# Altium schematic symbol library ROBOCAM_1.SCHLIB: 230 symbols (part 3 of 5)
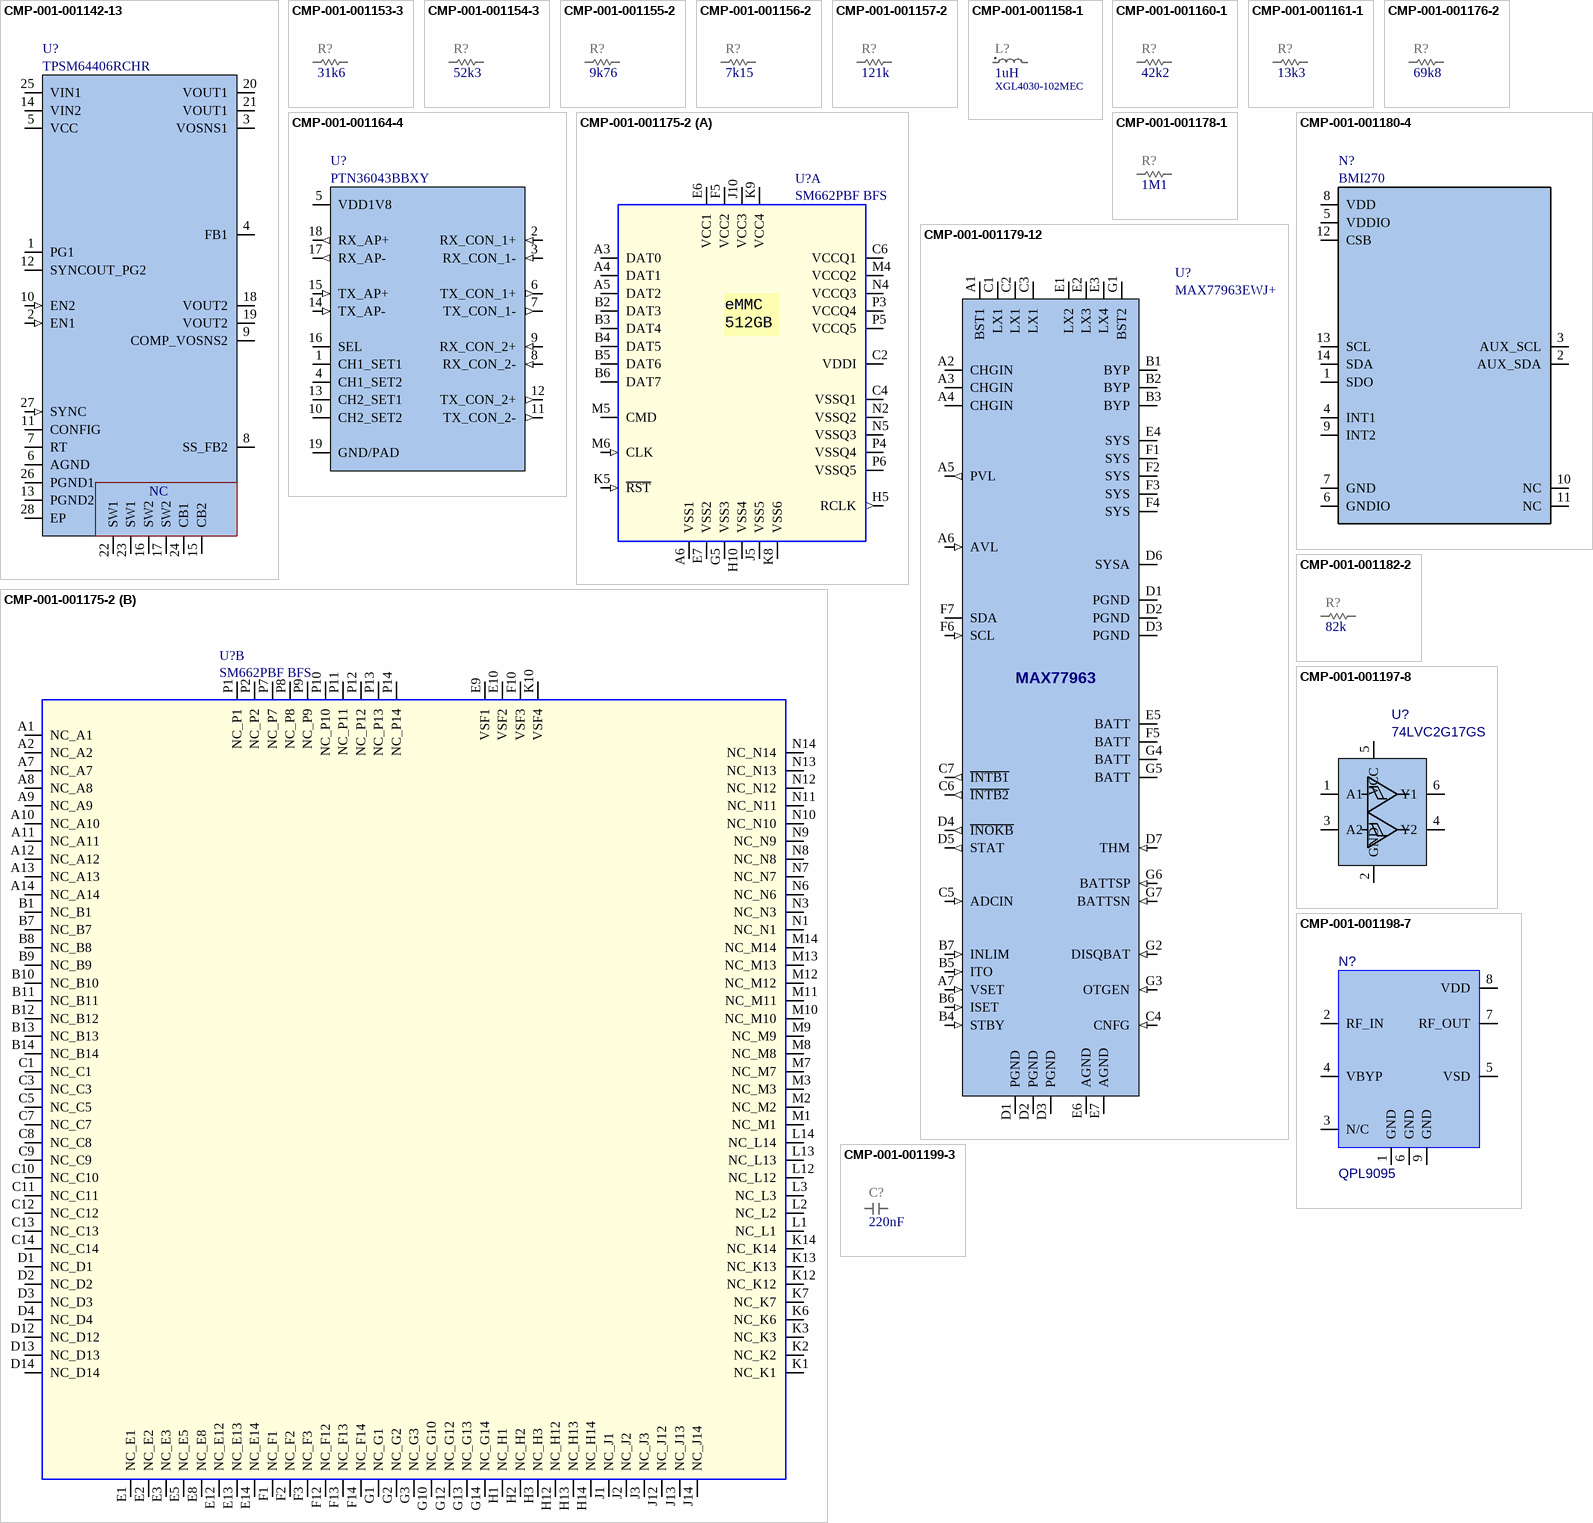
[diagram p13: symbols CMP-001-001142-13 to CMP-001-001199-3]

## CMP-001-001175-2
designator U?, comment SM662PBF BFS
MEM NAND FLASH 512GB eMMC 5.1 HS400 2.7-3.6V, 1.8V VCCQ, TFBGA153 Ferri-eMMC Automotive; Manufacturer: Silicon Motion, Inc.; Manufacturer: Silicon Motion; Manufacturer Part Number: SM662PBFBFSS; Sort order: 511; System: IC; ComponentLink1Description: 1_Datasheet; ComponentLink2Description: 2_Product page; ComponentLink2URL: https://www.siliconmotion.com/products/Ferri-eMMC/detail; ComponentLink3Description: 3_Product brief; ComponentLink3URL: https://www.siliconmotion.com/download/DWo5/a/Ferri-eMMC_PB_EN.pdf; ComponentLink4Description: 4_X-information; Creation Date: 20250508; Dimensions WxLxH: 11.5 x 13 x 1.2 mm; Operating temperature range: -40 .... +105 °C; Package: TFBGA-153; Part Number: SM662PBF BFS; Component Type: Memory
footprint GA153C50P14X14_1150X1300X120
part A pins: A3 DAT0 (io), A4 DAT1 (io), A5 DAT2 (io), A6 VSS1 (power), B2 DAT3 (io), B3 DAT4 (io), B4 DAT5 (io), B5 DAT6 (io), B6 DAT7 (io), C2 VDDI (power), C4 VSSQ1 (power), C6 VCCQ1 (power), E6 VCC1 (power), E7 VSS2 (power), F5 VCC2 (power), G5 VSS3 (power), H5 RCLK (out), H10 VSS4 (power), J5 VSS5 (power), J10 VCC3 (power), K5 ~{RST} (in), K8 VSS6 (power), K9 VCC4 (power), M4 VCCQ2 (power), M5 CMD (io), M6 CLK (in), N2 VSSQ2 (power), N4 VCCQ3 (power), N5 VSSQ3 (power), P3 VCCQ4 (power), P4 VSSQ4 (power), P5 VCCQ5 (power), P6 VSSQ5 (power)
part B pins: A1 NC_A1, A2 NC_A2, A7 NC_A7, A8 NC_A8, A9 NC_A9, A10 NC_A10, A11 NC_A11, A12 NC_A12, A13 NC_A13, A14 NC_A14, B1 NC_B1, B7 NC_B7, B8 NC_B8, B9 NC_B9, B10 NC_B10, B11 NC_B11, B12 NC_B12, B13 NC_B13, B14 NC_B14, C1 NC_C1, C3 NC_C3, C5 NC_C5, C7 NC_C7, C8 NC_C8, C9 NC_C9, C10 NC_C10, C11 NC_C11, C12 NC_C12, C13 NC_C13, C14 NC_C14, D1 NC_D1, D2 NC_D2, D3 NC_D3, D4 NC_D4, D12 NC_D12, D13 NC_D13, D14 NC_D14, E1 NC_E1, E2 NC_E2, E3 NC_E3, E5 NC_E5, E8 NC_E8, E9 VSF1, E10 VSF2, E12 NC_E12, E13 NC_E13, E14 NC_E14, F1 NC_F1, F2 NC_F2, F3 NC_F3, F10 VSF3, F12 NC_F12, F13 NC_F13, F14 NC_F14, G1 NC_G1, G2 NC_G2, G3 NC_G3, G10 NC_G10, G12 NC_G12, G13 NC_G13, G14 NC_G14, H1 NC_H1, H2 NC_H2, H3 NC_H3, H12 NC_H12, H13 NC_H13, H14 NC_H14, J1 NC_J1, J2 NC_J2, J3 NC_J3, J12 NC_J12, J13 NC_J13, J14 NC_J14, K1 NC_K1, K2 NC_K2, K3 NC_K3, K6 NC_K6, K7 NC_K7, K10 VSF4, K12 NC_K12, K13 NC_K13, K14 NC_K14, L1 NC_L1, L2 NC_L2, L3 NC_L3, L12 NC_L12, L13 NC_L13, L14 NC_L14, M1 NC_M1, M2 NC_M2, M3 NC_M3, M7 NC_M7, M8 NC_M8, M9 NC_M9, M10 NC_M10, M11 NC_M11, M12 NC_M12, M13 NC_M13, M14 NC_M14, N1 NC_N1, N3 NC_N3, N6 NC_N6, N7 NC_N7, N8 NC_N8, N9 NC_N9, N10 NC_N10, N11 NC_N11, N12 NC_N12, N13 NC_N13, N14 NC_N14, P1 NC_P1, P2 NC_P2, P7 NC_P7, P8 NC_P8, P9 NC_P9, P10 NC_P10, P11 NC_P11, P12 NC_P12, P13 NC_P13, P14 NC_P14
part A text: eMMC / 512GB

## CMP-001-001176-2
designator R?, comment value 69k8  (hidden comment: RES_0201_69k8)
RES; Part Number: RC0201FR-0769K8L; Manufacturer: YAGEO; Sort order: 322; HasBeenBuilt: TBD; Tolerance: 1%; Power Rating: 1/20W; System: RLC; ComponentLink1Description: 1_Datasheet; ClassName: SMALL; ComponentLink4Description: 4_X-information; ComponentLink3Description: 3_X-information; ComponentLink2Description: 2_Product page; Package: 0201; Creation date: 20250512; Component Type: Resistor
footprint RES_0201_UN1Q (Chip Resistor, 0.6x0.3mm)
pins: 1, 2

## CMP-001-001178-1
designator R?, comment value 1M1  (hidden comment: RES_0201_1M1)
RES; Part Number: RC0201FR-071M1L; Manufacturer: YAGEO; Tolerance: 1%; Power Rating: 1/20W; Sort order: 322; HasBeenBuilt: TBD; System: RLC; Package: 0201; ComponentLink1Description: 1_Datasheet; ComponentLink2Description: 2_Product page; ComponentLink3Description: 3_X-information; ComponentLink4Description: 4_X-information; Creation date: 20250509; ClassName: SMALL; Component Type: Resistor
footprint RES_0201_UN1Q (Chip Resistor, 0.6x0.3mm)
pins: 1, 2

## CMP-001-001179-12
designator U?, comment Part Number: MAX77963EWJ+  (hidden comment: MAX77963)
23VIN, 3.2 2S/3S -cell Li-Ion Battery Charger with PD.; Manufacturer: Analog Devices; Manufacturer Part Number: MAX77986AEFD+; Sort order: 501; System: IC; ComponentLink1Description: 1_Datasheet; ComponentLink1URL: https://www.analog.com/media/en/technical-documentation/data-sheets/max77963.pdf; ComponentLink2Description: 2_Product page; ComponentLink2URL: https://www.analog.com/en/products/max77963.html#evaluation-kit; ComponentLink3Description: 3_EVA-kit; ComponentLink3URL: https://www.analog.com/en/resources/evaluation-hardware-and-software/evaluation-boards-kits/max77963evkit.html#eb-overview; ComponentLink4Description: 4_X-information; Creation date: 20250509; Dimensions WxLxH: 3.72 x 3.72 x 0.6mm; Operating temperature range: -40 ... +85 °C; Package: 49-WLBGA; Component Type: Power Supply
footprint MAX77963EWJ+ (23VIN, 3.2 2S/3S -cell Li-Ion Battery Charger with PD.)
pins: A1 BST1, A2 CHGIN, A3 CHGIN, A4 CHGIN, A5 PVL (out), A6 AVL (in), A7 VSET (in), B1 BYP, B2 BYP, B3 BYP, B4 STBY (in), B5 ITO (in), B6 ISET (in), B7 INLIM (in), C1 LX1, C2 LX1, C3 LX1, C4 CNFG (in), C5 ADCIN (in), C6 ~{INTB2} (out), C7 ~{INTB1} (out), D1 PGND, D1 PGND, D2 PGND, D2 PGND, D3 PGND, D3 PGND, D4 ~{INOKB} (out), D5 STAT (out), D6 SYSA, D7 THM (in), E1 LX2, E2 LX3, E3 LX4, E4 SYS, E5 BATT, E6 AGND, E7 AGND, F1 SYS, F2 SYS, F3 SYS, F4 SYS, F5 BATT, F6 SCL (in), F7 SDA (io), G1 BST2, G2 DISQBAT (in), G3 OTGEN (in), G4 BATT, G5 BATT, G6 BATTSP (in), G7 BATTSN (in)

## CMP-001-001180-4
designator N?, comment BMI270
Low Power 6-Axis IMU Accelerometer, Gyroscope; Manufacturer: Bosch Sensortec; Sort order: 445; System: IC; Part Number: BMI270; ComponentLink1Description: 1_Datasheet; Design Item ID: BMI270; Package: VFLGA-14; ComponentLink2Description: 2_Product page; ClassName: BIG; ComponentLink1URL: https://www.bosch-sensortec.com/media/boschsensortec/downloads/datasheets/bst-bmi270-ds000.pdf; Dimensions WxLxH: 3.0 x 2.5 x 0.87 mm; RoHS: RoHS 3; ComponentLink3Description: 3_X-information; Operating temperature range: -40 .... +85 °C; Creation date: 20250514; ECCN: EAR99; ComponentLink4Description: 4_X-information; Component Type: Sensor
footprint BMI270_VFLGA-14 (Low Power 6-Axis IMU Accelerometer, Gyroscope)
pins: 1 SDO, 2 AUX_SDA, 3 AUX_SCL, 4 INT1, 5 VDDIO, 6 GNDIO, 7 GND, 8 VDD, 9 INT2, 10 NC, 11 NC, 12 CSB, 13 SCL, 14 SDA

## CMP-001-001182-2
designator R?, comment value 82k  (hidden comment: RES_0201_82k)
RES; Part Number: ERJ1GNF8202C; Manufacturer: Panasonic Electronic Components; Tolerance: 1%; Power Rating: 1/20W; Sort order: 322; Alternative component: Allowed; System: RLC; Package: 0201; ComponentLink1Description: 1_Datasheet; ComponentLink2Description: 2_Product page; ComponentLink3Description: 3_X-information; ComponentLink4Description: 4_X-information; Creation date: 20250520; ClassName: SMALL; Component Type: Resistor
footprint RES_0201_UN1Q (Chip Resistor, 0.6x0.3mm)
pins: 1, 2

## CMP-001-001197-8
designator U?, comment 74LVC2G17GS
Non-inverting, Schmitt-Trigger, CMOS.; Manufacturer: Nexperia; Manufacturer Part Number: 74LVC2G17GS,132; Sort order: 446; System: IC; ComponentLink1Description: 1_Datasheet; ComponentLink1URL: https://assets.nexperia.com/documents/data-sheet/74LVC2G17.pdf; ComponentLink2Description: 2_Product page; ComponentLink2URL: https://www.nexperia.com/search?q=74LVC2G&searchCategory=product; ComponentLink3Description: 3_X-information; ComponentLink4Description: 4_X-information; Creation date: 06032024; Dimensions WxLxH: 1.0 mm x 1.0 mm x 0.35mm; Operating temperature range: -40C ... +125C; Package: XSON6; Part Number: 74LVC2G17GS; Component Type: Logic
footprint XSON6_SOT1202_Nexperia
pins: 1 A1, 2 GND, 3 A2, 4 Y2, 5 VCC (power), 6 Y1

## CMP-001-001198-7
designator N?, comment QPL9095
Ultra Low-Noise, Bypass LNA; Manufacturer: Qorvo; Manufacturer Part Number: QPL9095SR; Sort order: 721; System: RF; ComponentLink4Description: 4_X-information; ComponentLink2URL: https://www.qorvo.com/products/p/QPL9095; ClassName: BIG; ComponentLink1Description: 1_Datasheet; Operating temperature range: -40°C ... 105°C; Package: DFN50; ComponentLink1URL: https://www.qorvo.com/products/d/da006183; Creation Date: 20240607; ComponentLink3Description: 3_X-information; ComponentLink3URL: https://www.qorvo.com/products/d/da006076; ComponentLink2Description: 2_Product page; Dimensions WxLxH: 2 x 2 x 0.95; Part Number: QPL9095; Component Type: RF IC
footprint DFN8_P50_200x200x95_QORVO (DFN8 2x2mm Pitch 0.5 mm)
pins: 1 GND, 2 RF_IN, 3 N/C, 4 VBYP, 5 VSD, 6 GND, 7 RF_OUT, 8 VDD, 9 GND

## CMP-001-001199-3
designator C?, comment value 220nF  (hidden comment: CAP_0402_220nF_X7R_16V)
CAP; Part Number: GRM155R71C224KA12D; Manufacturer: Murata; Sort order: 304; Temperature characteristics: X7R; Voltage: 16V; Tolerance: +/-10%; HasBeenBuilt: TBD; System: RLC; Alternative component: Allowed; Package: 0402; ComponentLink2Description: 2_Product page; Source: RLC_UN1Q.SchLib; ComponentLink1Description: 1_Datasheet; ComponentLink3Description: 3_X-information; ComponentLink4Description: 4_X-information; Creation date: 20240706; Manufacturer Part Number: GRM155R71C224KA12D; Component Type: Capacitor
footprint CAP_0402_UN1Q (Chip Capacitor 0402)
footprint FP-GRM155-0_05-MFG
footprint FP-GRM155-0_05-IPC_A
footprint FP-GRM155-0_05-IPC_C
footprint FP-GRM155-0_05-IPC_B
pins: 1, 2

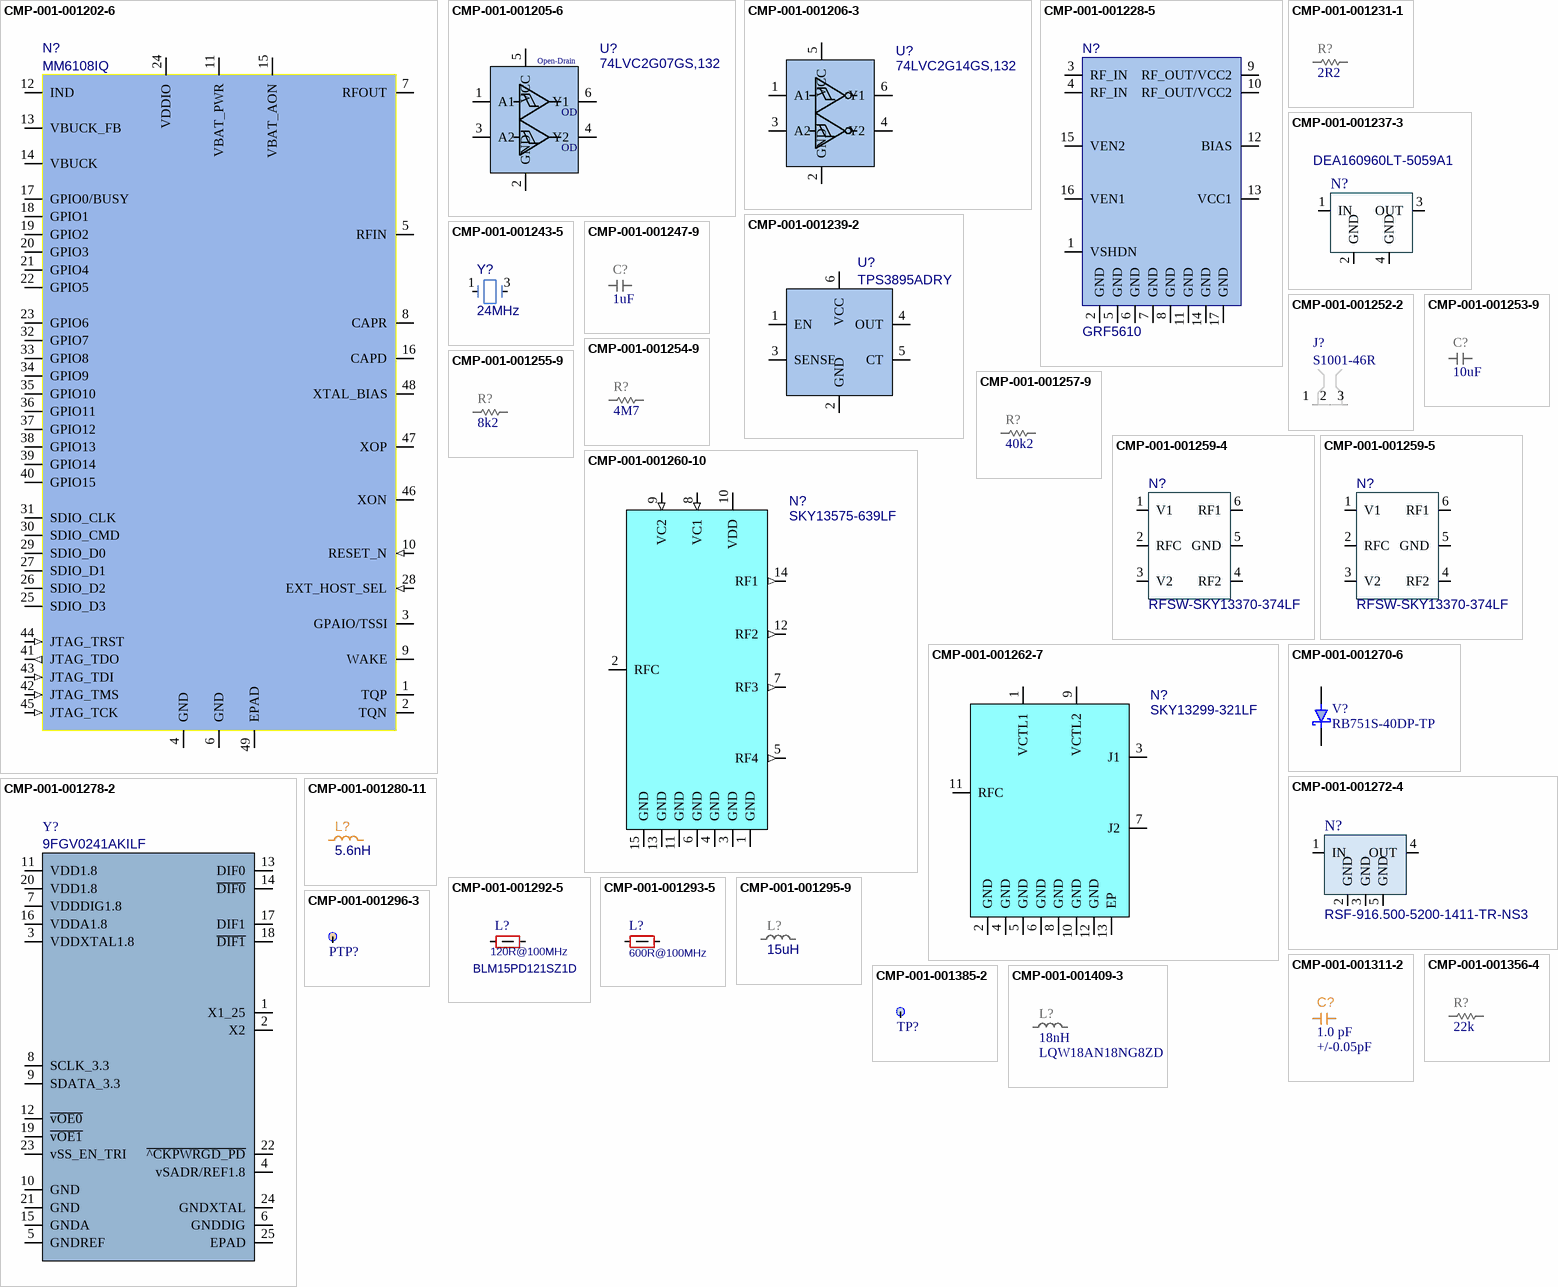
[diagram p7: symbols CMP-001-001202-6 to CMP-001-001409-3]

## CMP-001-001202-6
designator N?, comment Part Number: MM6108IQ  (hidden comment: MM6108)
IEEE 802.11ah Sub-1 GHz HaLow SoC; Manufacturer: Morse Micro; Sort order: 721; System: RF; ComponentLink1URL: https://www.morsemicro.com/download/ds-mm6108-advanced-datasheet-ds102/; ComponentLink3Description: 3_X-information; Operating temperature range: -40 ... +85C; Dimensions WxLxH: 6.1 x 6.1 x 0.9 mm; Package: QFN48; ComponentLink4URL: https://www.morsemicro.com/wp-content/uploads/2023/02/Morse-Micro_MM6108_Product-Brief_v03-5.pdf; ClassName: BIG; Creation Date: 20240607; ComponentLink2Description: 2_Product page; ComponentLink4Description: 4_X-information; ComponentLink1Description: 1_Datasheet; ComponentLink3URL: https://www.morsemicro.com/download/mm6108-mf08651-us-bailey-v13_2-active/; Component Type: RF IC
footprint MM6108-Footprint (QFN48, 6 x 6, Pitch 0.4 mm)
pins: 1 TQP "ADC Test Data Out to FPGA (500MHz)", 2 TQN "ADC Test Data Out to FPGA (500MHz)", 3 GPAIO/TSSI "ADC Test Data Out to FPGA (500MHz)", 4 GND (power) "ADC Test Data Out to FPGA (500MHz)", 5 RFIN, 6 GND (power), 7 RFOUT, 8 CAPR (power), 9 WAKE, 10 RESET_N (in), 11 VBAT_PWR (power), 12 IND, 13 VBUCK_FB (power), 14 VBUCK (power), 15 VBAT_AON (power), 16 CAPD (power), 17 GPIO0/BUSY (io), 18 GPIO1 (io), 19 GPIO2 (io), 20 GPIO3 (io), 21 GPIO4 (io), 22 GPIO5 (io), 23 GPIO6 (io), 24 VDDIO (power), 25 SDIO_D3 (io), 26 SDIO_D2 (io), 27 SDIO_D1 (io), 28 EXT_HOST_SEL (in), 29 SDIO_D0 (io), 30 SDIO_CMD (io), 31 SDIO_CLK (io), 32 GPIO7 (io), 33 GPIO8 (io), 34 GPIO9 (io), 35 GPIO10 (io), 36 GPIO11 (io), 37 GPIO12 (io), 38 GPIO13 (io), 39 GPIO14 (io), 40 GPIO15 (io), 41 JTAG_TDO (out), 42 JTAG_TMS (in), 43 JTAG_TDI (in), 44 JTAG_TRST (in), 45 JTAG_TCK (in), 46 XON, 47 XOP, 48 XTAL_BIAS, 49 EPAD (power)

## CMP-001-001205-6
designator U?, comment Part Number: 74LVC2G07GS,132  (hidden comment: 74LVC2G07GS)
Dual buffer with open-drain outputs , Schmitt-Trigger, CMOS.; Manufacturer: Nexperia; Manufacturer: NXP Semiconductors; Sort order: 446; System: IC; ComponentLink1Description: 1_Datasheet; ComponentLink1URL: https://assets.nexperia.com/documents/data-sheet/74LVC2G07.pdf; ComponentLink2Description: 2_Product page; ComponentLink2URL: https://www.nexperia.com/search?q=74LVC2G&searchCategory=product; ComponentLink3Description: 3_X-information; ComponentLink4Description: 4_X-information; Creation date: 20240318; Dimensions WxLxH: 1.0 mm x 1.0 mm x 0.35mm; Operating temperature range: -40C ... +125C; Package: XSON6; Manufacturer Part Number: 74LVC2G07GS,132; Component Type: Logic
footprint XSON6_SOT1202_Nexperia
pins: 1 A1, 2 GND, 3 A2, 4 Y2, 5 VCC (power), 6 Y1
text: Open-Drain; OD

## CMP-001-001206-3
designator U?, comment Part Number: 74LVC2G14GS,132  (hidden comment: 74LVC2G14GS)
Inverter, Schmitt-Trigger, CMOS.; Manufacturer: Nexperia; Sort order: 446; System: IC; ComponentLink1Description: 1_Datasheet; ComponentLink1URL: https://assets.nexperia.com/documents/data-sheet/74LVC2G14.pdf; ComponentLink2Description: 2_Product page; ComponentLink2URL: https://www.nexperia.com/search?q=74LVC2G&searchCategory=product; ComponentLink3Description: 3_X-information; ComponentLink4Description: 4_X-information; Creation date: 20240306; Dimensions WxLxH: 1.0 x 1.0 x 0.35 mm; Operating temperature range: -40C ... +125C; Package: XSON6; Manufacturer Part Number: 74LVC2G14GS,132; Component Type: Logic
footprint XSON6_SOT1202_Nexperia
pins: 1 A1, 2 GND, 3 A2, 4 Y2, 5 VCC (power), 6 Y1

## CMP-001-001228-5
designator N?, comment GRF5610
POWER AMPLIFIER 865 to 928 MHz; Manufacturer: Guerrilla RF; Manufacturer Part Number: GRF5610-EVB; Sort order: 731; System: RF; ComponentLink4Description: 4_X-information; Creation Date: 20240612; ClassName: BIG; Dimensions WxLxH: 3 x 3 x 0.9; ComponentLink1URL: https://www.guerrilla-rf.com/products/DataSheet?sku=5610&file_name=GRF5610DS.pdf; Package: QFN16; ComponentLink2Description: 2_Product page; Part Number: GRF5610; ComponentLink1Description: 1_Datasheet; Operating temperature range: -40 ... +85C; ComponentLink2URL: https://www.guerrilla-rf.com/products/detail/sku/GRF5610; ComponentLink3Description: 3_X-information; Manufacturer Part Number: GRF5610; Component Type: RF IC
footprint QFN16_300x300_Guerrilla (QFN16 Guerrilla RF)
pins: 1 VSHDN "Digital Shutdown Pin", 2 GND, 3 RF_IN "RF Input", 4 RF_IN "RF Input", 5 GND, 6 GND, 7 GND, 8 GND, 9 RF_OUT/VCC2 "PA Output/Bias Voltage", 10 RF_OUT/VCC2 "PA Output/Bias Voltage", 11 GND, 12 BIAS "Bias Circuit Supply", 13 VCC1 "Bias Voltage", 14 GND, 15 VEN2 "Enable2 Voltage Input", 16 VEN1 "Enable1 Voltage Input", 17 GND

## CMP-001-001231-1
designator R?, comment value 2R2  (hidden comment: RES_0805_2R2)
RES; Manufacturer: Panasonic; Part Number: ERJ-6GEYJ2R2V; Tolerance: 5%; Power Rating: 1/8W; Sort order: 328; System: RLC; ComponentLink1Description: 1_Datasheet; Creation date: 20250526; ComponentLink4Description: 4_X-information; ComponentLink3Description: 3_X-information; ComponentLink2Description: 2_Product page; Package: 0805; Manufacturer Part Number: ERJ-6GEYJ2R2V; Component Type: Resistor
footprint RES_0805_UN1Q (Resistor 0805)
pins: 1, 2

## CMP-001-001237-3
designator N?, comment Part Number: DEA160960LT-5059A1  (hidden comment: LPF-698-960MHz_TDK_DEA160960LT-5059A1)
LPF 698-960MHz; Manufacturer: TDK; System: RF; Sort order: 701; ComponentLink3Description: 3_X-information; Dimensions WxLxH: 0.8mm x 1.6mm x  0.6mm; ComponentLink2Description: 2_Product page; Operating temperature range: -40 ... +90C; ComponentLink1URL: https://product.tdk.com/en/search/rf/rf/filter/info?part_no=DEA160960LT-5059A1; Creation date: 20240612; ComponentLink1Description: 1_Datasheet; ComponentLink4Description: 4_X-information; Package: 0603; ComponentLink2URL: https://product.tdk.com/system/files/dam/doc/product/rf/rf/filter/catalog/rf_lpf_dea160960lt-5059a1_en.pdf; Component Type: RF Discrete
footprint TDK_0603_DEA16XXX (TDK 0603 DEA16XXX 3 or 4 pin filters)
pins: 1 IN "50 ohm terminal", 2 GND, 3 OUT "50 ohm terminal", 4 GND

## CMP-001-001239-2
designator U?, comment Part Number: TPS3895ADRY  (hidden comment: TPS3895A)
Adj. Voltage Monitor (>500mV), Push-Pull, Adj. delay; Manufacturer: Texas Instruments; Manufacturer Part Number: TPS3895ADRYT; Manufacturer Part Number: TPS3895ADRYR; HasBeenBuilt: Cmod2_01; Sort order: 501; System: IC; ComponentLink1Description: 1_Datasheet; ComponentLink1URL: https://www.ti.com/lit/ds/symlink/tps3895.pdf?ts=1666337566877&ref_url=https%253A%252F%252Fwww.ti.com%252Fproduct%252FTPS3895; ComponentLink2Description: 2_Product page; ComponentLink2URL: https://www.ti.com/product/TPS3895; ComponentLink3Description: 3_X-information; ComponentLink4Description: 4_X-information; Creation date: 20221021; Dimensions WxLxH: 1.05 x 1.5 x 0.6 mm; Package: USON6; Component Type: Power Supply
footprint SON6_TPS3895ADRY_TI (6-UFDFN)
pins: 1 EN, 2 GND, 3 SENSE, 4 OUT, 5 CT, 6 VCC

## CMP-001-001243-5
designator Y?, comment value 24MHz  (hidden comment: XTAL_24M_10ppm_9pF_+105C)
Crystal 24 MHz ±10ppm 9pF 40Ohms 4-SMD; Part Number: TSX-3225 24.0000MF20G-AC3; Manufacturer: EPSON; Tolerance: +/-10ppm; Sort order: 455; System: Discrete; Operating temperature range: -40 ... +105C; Dimensions WxLxH: 3.2 x 2.5 x 0.6mm; ComponentLink1Description: 1_Datasheet; ComponentLink1URL: https://support.epson.biz/td/api/doc_check.php?dl=brief_TSX-3225&lang=en; ComponentLink2Description: 2_Product page; ComponentLink3Description: 3_X-information; ComponentLink4Description: 4_X-information; Creation date: 20240430; Manufacturer: Epson; Manufacturer Part Number: TSX-3225 24.0000MF20G-AC3; Component Type: Crystal & Oscillator
footprint XTAL_3225_EPSON (Epson TSX-3225 3.2mm x 2.5mm)
pins: 1, 2 GND hidden to GND, 3, 4 GND hidden to GND

## CMP-001-001247-9
designator C?, comment value 1uF  (hidden comment: CAP_0402_1uF_10V_X7R)
CAP; Part Number: GRM155Z71A105KE01J; Manufacturer: Murata; Temperature characteristics: X7R; Voltage: 10V; Tolerance: +/-10%; Sort order: 304; Alternative component: Allowed; System: RLC; Package: 0402; ComponentLink1Description: 1_Datasheet; ComponentLink2Description: 2_Product page; ComponentLink3Description: 3_X-information; ComponentLink4Description: 4_X-information; Creation date: 20240404; Manufacturer Part Number: GRM155Z71A105KE01J; Component Type: Capacitor
footprint CAP_0402_UN1Q (Chip Capacitor 0402)
pins: 1, 2

## CMP-001-001252-2
designator J?, comment S1001-46R
EMC Shielding Clip; Manufacturer: Harwin; Sort order: 101; System: EMECH; Part Number: S1001-46R; Package: Clip; ComponentLink1Description: 1_Datasheet; ComponentLink1URL: https://cdn.harwin.com/pdfs/S1001-46R.pdf; Dimensions WxLxH: 0.75x4.5x0.9; ComponentLink2Description: 2_Product page; ComponentLink2URL: https://www.harwin.com/products/S1001-46R/; ComponentLink3Description: 3_X-information; ComponentLink4Description: 4_X-information; Creation Date: 20240502; Design Item ID: EMC_Shield_Clip_S1001-46R; Manufacturer Part Number: S1001-46R; Component Type: Shield
footprint Shield_Clip_S1001-46R_Harwin (EMC Shielding Clip)
pins: 1, 2, 3

## CMP-001-001253-9
designator C?, comment value 10uF  (hidden comment: CAP_0603_10u_10V_X7R)
CAP; Part Number: GRM188Z71A106KA73D; Manufacturer: Murata; Voltage: 10V; Tolerance: +/-10%; Temperature characteristics: X7R; Sort order: 306; Alternative component: Allowed; System: RLC; Package: 0603; ComponentLink1Description: 1_Datasheet; ComponentLink2Description: 2_Product page; ComponentLink3Description: 3_X-information; ComponentLink4Description: 4_X-information; Creation date: 20240404; Manufacturer Part Number: GRM188Z71A106KA73D; Component Type: Capacitor
footprint CAP_0603_UN1Q (Chip Capacitor 0603)
pins: 1, 2

## CMP-001-001254-9
designator R?, comment value 4M7  (hidden comment: RES_0201_4M7)
RES; Part Number: MCRE000254; Manufacturer: MULTICOMP PRO; Tolerance: 1%; Power Rating: 1/20W; Sort order: 322; Alternative component: Allowed; System: RLC; Package: 0201; ClassName: SMALL; ComponentLink1Description: 1_Datasheet; ComponentLink2Description: 2_Product page; ComponentLink3Description: 3_X-information; ComponentLink4Description: 4_X-information; Creation date: 20240404; Component Type: Resistor
footprint RES_0201_UN1Q (Chip Resistor, 0.6x0.3mm)
pins: 1, 2

## CMP-001-001255-9
designator R?, comment value 8k2  (hidden comment: RES_0201_8k2)
RES; Part Number: ERJ1GNF8201C; Manufacturer: Panasonic Electronic Components; Tolerance: 1%; Power Rating: 1/20W; Sort order: 322; Alternative component: Allowed; System: RLC; Package: 0201; ClassName: SMALL; ComponentLink1Description: 1_Datasheet; ComponentLink2Description: 2_Product page; ComponentLink3Description: 3_X-information; ComponentLink4Description: 4_X-information; Creation date: 20240404; Component Type: Resistor
footprint RES_0201_UN1Q (Chip Resistor, 0.6x0.3mm)
pins: 1, 2

## CMP-001-001257-9
designator R?, comment value 40k2  (hidden comment: RES_0201_40k2)
RES; Part Number: RC0201FR-0740K2L; Manufacturer: YAGEO; Power Rating: 1/20W; Sort order: 322; Tolerance: 1%; Alternative component: Allowed; System: RLC; Package: 0201; Creation date: 20240404; ComponentLink3Description: 3_X-information; ClassName: SMALL; ComponentLink1Description: 1_Datasheet; ComponentLink2Description: 2_Product page; ComponentLink4Description: 4_X-information; Component Type: Resistor
footprint RES_0201_UN1Q (Chip Resistor, 0.6x0.3mm)
pins: 1, 2

## CMP-001-001259-4
designator N?, comment RFSW-SKY13370-374LF
0.5 to 6.0 GHz SPDT Switch.  50 Ω Terminated; Manufacturer: Skyworks; Manufacturer: Skyworks Solutions; System: RF; Sort order: 711; Part Number: SKY13370-374LF; Operating temperature range: -40C ... +85C; Package: DFN6; ComponentLink2Description: 2_Product page; ComponentLink4Description: 4_X-information; ComponentLink1Description: 1_Datasheet; ComponentLink2URL: https://www.skyworksinc.com/en/Products/switches/SKY13370-374LF; Dimensions WxLxH: 1.5 x 1.5 x 0.5; ComponentLink1URL: https://www.skyworksinc.com/-/media/SkyWorks/Documents/Products/501-600/SKY13370_374LF_201408G.pdf; ComponentLink3Description: 3_X-information; Creation Date: 20200101; ClassName: BIG; Manufacturer Part Number: SKY13370-374LF; Component Type: RF IC
footprint IC_SKY136XX_DFN (Antenna SPDT Switch)
pins: 1 V1 "DC control voltage. A logic high voltage enables an insertion loss path between the RFC and RF1 pins.", 2 RFC "RF common input. Must be DC blocked.", 3 V2 "DC control voltage. A logic high voltage enables an insertion loss path between the RFC and RF2 pins.", 4 RF2 "RF output: 50 Ω terminated when in isolation state. Must be DC blocked.", 5 GND, 6 RF1 "RF output: 50 Ω terminated when in isolation state. Must be DC blocked.", 7 GND_PAD (power) hidden to GND "GND"

## CMP-001-001259-5
designator N?, comment RFSW-SKY13370-374LF
0.5 to 6.0 GHz SPDT Switch.  50 Ω Terminated; Manufacturer: Skyworks; Manufacturer: Skyworks Solutions; System: RF; Sort order: 711; Part Number: SKY13370-374LF; Operating temperature range: -40C ... +85C; Package: DFN6; ComponentLink2Description: 2_Product page; ComponentLink4Description: 4_X-information; ComponentLink1Description: 1_Datasheet; ComponentLink2URL: https://www.skyworksinc.com/en/Products/switches/SKY13370-374LF; Dimensions WxLxH: 1.5 x 1.5 x 0.5; ComponentLink1URL: https://www.skyworksinc.com/-/media/SkyWorks/Documents/Products/501-600/SKY13370_374LF_201408G.pdf; RoHS: RoHS 3; ComponentLink3Description: 3_X-information; ECCN: 5A991G; Creation Date: 20200101; ClassName: BIG; Manufacturer Part Number: SKY13370-374LF; Component Type: RF IC
footprint IC_SKY136XX_DFN (Antenna SPDT Switch)
pins: 1 V1 "DC control voltage. A logic high voltage enables an insertion loss path between the RFC and RF1 pins.", 2 RFC "RF common input. Must be DC blocked.", 3 V2 "DC control voltage. A logic high voltage enables an insertion loss path between the RFC and RF2 pins.", 4 RF2 "RF output: 50 Ω terminated when in isolation state. Must be DC blocked.", 5 GND, 6 RF1 "RF output: 50 Ω terminated when in isolation state. Must be DC blocked.", 7 GND_PAD (power) hidden to GND "GND"

## CMP-001-001260-10
designator N?, comment SKY13575-639LF
Dual-Band Matched SP4T Wi-Fi Switch; Manufacturer: Skyworks; Manufacturer: Skyworks Solutions; Sort order: 711; System: RF; Part Number: SKY13575-639LF; ComponentLink1URL: https://www.skyworksinc.com/-/media/SkyWorks/Documents/Products/2201-2300/SKY13575_639LF_203270D.pdf; ClassName: BIG; ComponentLink4Description: 4_X-information; ComponentLink2URL: https://www.skyworksinc.com/en/Products/switches/SKY13575-639LF; Dimensions WxLxH: 1.6 x 1.6 x 0.5; Operating temperature range: -40C ... +90C; ECCN: 5A991.g; Creation Date: 20240626; ComponentLink2Description: 2_Product page; Package: QFN14; ComponentLink3Description: 3_X-information; ComponentLink1Description: 1_Datasheet; Manufacturer Part Number: SKY13575-639LF; Component Type: RF IC
footprint SKY13575-639LF-Footprint (QFN14 SKYWORKS)
pins: 1 GND (power), 2 RFC, 3 GND (power), 4 GND (power), 5 RF4 (out), 6 GND (power), 7 RF3 (out), 8 VC1 (in), 9 VC2 (in), 10 VDD (power), 11 GND (power), 12 RF2 (out), 13 GND (power), 14 RF1 (out), 15 GND (power)

## CMP-001-001262-7
designator N?, comment SKY13299-321LF
20 MHz-5 GHz, 7 W SPDT Switch; Manufacturer: Skyworks; Manufacturer: Skyworks Solutions; System: RF; Sort order: 711; ComponentLink2URL: https://www.skyworksinc.com/en/Products/switches/SKY13299-321LF; Operating temperature range: -40C ... +85C; ComponentLink1URL: https://www.skyworksinc.com/-/media/SkyWorks/Documents/Products/101-200/SKY13299_321LF_200621J.pdf; ComponentLink4Description: 4_X-information; ComponentLink3Description: 3_X-information; Package: QFN12L; ComponentLink2Description: 2_Product page; ComponentLink1Description: 1_Datasheet; Part Number: SKY13299-321LF; Creation Date: 20260626; Dimensions WxLxH: 3 x 3 x 0.8; ClassName: BIG; Manufacturer Part Number: SKY13299-321LF; Component Type: RF IC
footprint SKY13299-321LF-Footprint (QFN12, 3 x 3 mm Skyworks)
pins: 1 VCTL1, 2 GND, 3 J1, 4 GND, 5 GND, 6 GND, 7 J2, 8 GND, 9 VCTL2, 10 GND, 11 RFC, 12 GND, 13 EP

## CMP-001-001270-6
designator V?, comment RB751S-40DP-TP
Schottky diode 30mA 40V; Manufacturer: Micro Commercial Components MCC; Manufacturer: MCC; Sort order: 421; Value: 1mA@370mV; System: Discrete; Package: 0201; Part Number: RB751S-40DP-TP; Operating temperature range: -55...125C; ComponentLink1Description: 1_Datasheet; ComponentLink1URL: https://www.mccsemi.com/pdf/Products/RB751S-40DP(0201).pdf; Dimensions WxLxH: 0.67x0.37x0.34; ComponentLink2Description: 2_Product page; ComponentLink3Description: 3_X-information; ComponentLink4Description: 4_X-information; Creation date: 20240704; ClassName: SMALL; Manufacturer Part Number: RB751S-40DP-TP; Component Type: Diode
footprint Schottky_0201_MCC (Schottkydiode, 0201, Micro Commercial Components)
pins: 1 CATHODE, 2 ANODE

## CMP-001-001272-4
designator N?, comment RSF-916.500-5200-1411-TR-NS3
916.5 MHz SAW FILTER, IL 2.8; Manufacturer: RALTRON; Manufacturer: Raltron Electronics; System: RF; Sort order: 701; Part Number: RSF-916.500-5200-1411-TR-NS3; ComponentLink2URL: https://www.raltron.com/saw-filters-by-frequency/?3186_device=laptop&3186_paged=4; Dimensions WxLxH: 1.4 x 1.1 x  0.6mm; ComponentLink2Description: 2_Product page; ComponentLink1Description: 1_Datasheet; ComponentLink4Description: 4_X-information; ComponentLink3Description: 3_X-information; Package: 5-SMD; ComponentLink1URL: https://www.raltron.com/webproducts/specs/SAW_FILTER/RSF-916.500-5200-1411-TR-NS3.pdf; Operating temperature range: -40 ... +95C; Creation date: 20240711; Manufacturer Part Number: RSF-916.500-5200-1411-TR-NS3; Component Type: RF Discrete
footprint RSF-916.500-5200-1411-TR-NS3
pins: 1 IN "50 ohm input", 2 GND, 3 GND, 4 OUT "50 ohm output", 5 GND

## CMP-001-001278-2
designator Y?, comment 9FGV0241AKILF
PCIe Clock Generator, 2-output PCIE GEN 1–4 CLOCK GENERATOR; Manufacturer: Renesas Electronics Corporation; Manufacturer: Renesas; Sort order: 455; System: IC; ECCN: EAR99; ComponentLink3Description: 3_X-information; ComponentLink4Description: 4_X-information; Operating temperature range: -40 .... +85 °C; ComponentLink1URL: https://www.renesas.com/us/en/document/dst/9fgv0241-datasheet; Creation date: 20240816; Part Number: 9FGV0241AKILF; Dimensions WxLxH: 4.0x4.0x0.9mm; ComponentLink1Description: 1_Datasheet; Design Item ID: 9FGV0241AKILF; Package: VFQFPN-24; ComponentLink2Description: 2_Product page; ClassName: BIG; Manufacturer Part Number: 9FGV0241AKILF; Component Type: Timing
footprint VFQFPN-24_9FGV0241AKLF (VFQFPN-24)
pins: 1 X1_25, 2 X2, 3 VDDXTAL1.8, 4 vSADR/REF1.8, 5 GNDREF, 6 GNDDIG, 7 VDDDIG1.8, 8 SCLK_3.3, 9 SDATA_3.3, 10 GND, 11 VDD1.8, 12 ~{vOE0}, 13 DIF0, 14 ~{DIF0}, 15 GNDA, 16 VDDA1.8, 17 DIF1, 18 ~{DIF1}, 19 ~{vOE1}, 20 VDD1.8, 21 GND, 22 ~{^CKPWRGD_PD}, 23 vSS_EN_TRI, 24 GNDXTAL, 25 EPAD

## CMP-001-001280-11
designator L?, comment value 5.6nH  (hidden comment: IND_0402_5n6_RF_MATCHING)
IND_RF_MATCHING, WIREWOUND; Manufacturer: Murata; Part Number: LQW15AN5N6B8Z#; Manufacturer Part Number: LQW15AN5N6B8ZD; Tolerance: +/- 5%; HasBeenBuilt: TBD; Sort order: 206; System: RLC; Remark: RF matching, use part number; ComponentLink2Description: 2_Product page; ComponentLink1Description: 1_Datasheet; Operating temperature range: -55 ... +125C; Creation date: 20240318; Source: UUDET_KOMPONENTIT.SchLib; ComponentLink1URL: https://www.mouser.fi/datasheet/2/281/1/JELF243A_9138-1699493.pdf; ComponentLink3Description: 3_X-information; Package: 0402; ClassName: SMALL; ComponentLink4Description: 4_X-information; RoHS: RoHS3; Component Type: Inductor
footprint IND_0402_UN1Q (Chip Resistor, 1.0x0.5mm)
pins: 1, 2

## CMP-001-001292-5
designator L?, comment value 120R@100MHz  Part Number: BLM15PD121SZ1D  (hidden comment: FERRITE_0402_BLM15PD_120R)
FERRITE; Manufacturer: Murata; HasBeenBuilt: TBD; Sort order: 364; Tolerance: 25%; System: Discrete; Current: 1.3A; Source: Discrete_UN1Q.SchLib; Creation date: 20240904; Package: 0402; ComponentLink3Description: 3_X-information; Operating temperature range: -55 ... +125C; ComponentLink2Description: 2_Product page; ComponentLink2URL: https://www.murata.com/en-global/search/productsearch?cate=cgsubChipFerriBead&partno=BLM15PD121&realtime=1; ComponentLink4Description: 4_X-information; ComponentLink1Description: 1_Datasheet; ComponentLink1URL: https://www.mouser.fi/datasheet/2/281/QNFA9118-1915745.pdf; Manufacturer Part Number: BLM15PD121SZ1D; Component Type: Ferrite
footprint IND_0402_UN1Q (Chip Resistor, 1.0x0.5mm)
pins: 1, 2

## CMP-001-001293-5
designator L?, comment value 600R@100MHz  (hidden comment: FERRITE_0402_BLM15PX_600R)
FERRITE; Part Number: BLM15PX601SZ1#; Manufacturer: Murata; Manufacturer Part Number: BLM15PX601SZ1D; System: Discrete; Tolerance: 25%; Sort order: 364; HasBeenBuilt: TBD; Current: 0.9A; ComponentLink1URL: https://www.mouser.fi/datasheet/2/281/QNFA9118-1915745.pdf; Package: 0402; Creation date: 20240904; ComponentLink2Description: 2_Product page; Source: Discrete_UN1Q.SchLib; ComponentLink4Description: 4_X-information; ComponentLink1Description: 1_Datasheet; ComponentLink3Description: 3_X-information; Operating temperature range: -55 ... +125C; Component Type: Ferrite
footprint IND_0402_UN1Q (Chip Resistor, 1.0x0.5mm)
pins: 1, 2

## CMP-001-001295-9
designator L?, comment value 15uH  (hidden comment: IND_1008_15uH_Wurth)
15uH 0.47A 820mohm; Manufacturer: Wurth; Part Number: 74404024150; Manufacturer: Wurth Elektronik; Sort order: 348; System: RLC; HasBeenBuilt: TBD; ComponentLink1Description: 1_Datasheet; ComponentLink3Description: 3_X-information; ComponentLink2Description: 2_Product page; Package: 1008; Dimensions WxLxH: 2.0x2.5x1.2; ComponentLink1URL: https://www.we-online.com/components/products/datasheet/74404024150.pdf; ComponentLink2URL: https://www.digikey.com/en/products/detail/w%C3%BCrth-elektronik/74404024150/4865380; Creation date: 20240904; ComponentLink4Description: 4_X-information; Current: 0.47A; Manufacturer Part Number: 74404024150; Component Type: Inductor
footprint IND_1008_UN1Q_Wurth (Chip Inductor, 1008)
pins: 1, 2

## CMP-001-001296-3
designator PTP?, comment PTP_0.4mm  (value not drawn)  (no BOM)
Production Testpoint 0.4mm. Flying probe. Use 1mm pitch.; Part Number: PTP 0.4mm; ComponentLink4Description: 4_X-information; ComponentLink1Description: 1_Datasheet; Sort order: -; ClassName: SMALL; System: Test Point; HasBeenBuilt: -; Design Item ID: PTP_0.4mm; ComponentLink3Description: 3_X-information; Creation date: 20240909; ComponentLink2Description: 2_Product page; Component Type: Test Point
footprint PTP_0.4mm (ProductionTest Point, Circular, 0.4mm. Flying probe. Use 1mm pitch.)
pins: 1 TP

## CMP-001-001311-2
designator C?, comment value 1.0 pF  Tolerance: +/-0.05pF  (hidden comment: CAP_0201_1p0_GJM_RF_MATCHING)
CAP_RF_MATCHING; Manufacturer: Murata; Part Number: GJM0335C1H1R0WB01; HasBeenBuilt: TBD; Sort order: 202; Remark: RF matching, use part number; Temperature characteristics: C0G; System: RLC; Voltage: 50V; ComponentLink3Description: 3_X-information; ComponentLink1URL: https://www.murata.com/en-global/products/productdetail?partno=GJM0335C1H1R0WB01%23; Creation date: 20240917; Source: RLC_UN1Q.SchLib; ECCN: EAR99; ComponentLink1Description: 1_Datasheet; Package: 0201; ComponentLink2Description: 2_Product page; ComponentLink4Description: 4_X-information; Operating temperature range: -55 ... +125C; ClassName: SMALL; RoHS: RoHS 2011/65/EU amended by 2015/863 Compliant; Component Type: Capacitor
footprint CAP_0201_UN1Q (Chip Capacitor 0201)
pins: 1, 2

## CMP-001-001356-4
designator R?, comment value 22k  (hidden comment: RES_0201_22k)
RES; Part Number: RC0201FR-0712KL; Manufacturer: YAGEO; Manufacturer: Yageo Group; Manufacturer Part Number: RC0201FR-0722KL; Tolerance: 1%; Power Rating: 1/20W; Sort order: 322; Alternative component: Allowed; System: RLC; Package: 0201; ComponentLink1Description: 1_Datasheet; ComponentLink2Description: 2_Product page; ComponentLink3Description: 3_X-information; ComponentLink4Description: 4_X-information; Creation date: 20241101; ClassName: SMALL; Component Type: Resistor
footprint RES_0201_UN1Q (Chip Resistor, 0.6x0.3mm)
pins: 1, 2

## CMP-001-001385-2
designator TP?, comment TP_0.4mm  (value not drawn)  (no BOM)
Testpoint 0.4mm; Part Number: TP 0.4mm; HasBeenBuilt: -; ComponentLink3Description: 3_X-information; System: Test Point; ClassName: SMALL; Design Item ID: TP_0.4mm; Sort order: -; ComponentLink4Description: 4_X-information; ComponentLink2Description: 2_Product page; Creation date: 20241125; ComponentLink1Description: 1_Datasheet; Component Type: Test Point
footprint TP_0.4mm (Test Point 0.4mm)
pins: 1 TP

## CMP-001-001409-3
designator L?, comment value 18nH  Part Number: LQW18AN18NG8ZD  (hidden comment: IND_0603_18nH_LQW)
IND High Q Wirewound, 1.4A; Manufacturer: Murata; Tolerance: 2%; System: RLC; Sort order: 346; Package: 0603; ComponentLink2Description: 2_Product page; Dimensions WxLxH: 1.09 x 1.75 x 1.00; ComponentLink3Description: 3_X-information; Creation date: 20250103; ComponentLink1Description: 1_Datasheet; ComponentLink1URL: https://www.mouser.fi/datasheet/2/281/JELF243A_9133-1518463.pdf; Operating temperature range: -55℃ to 125℃; ComponentLink4Description: 4_X-information; Current: 1.4 A; Manufacturer Part Number: LQW18AN18NG8ZD; Component Type: Inductor
footprint IND_0603_UN1Q_LQW (Chip Inductor, 1.65x0.99mm (1.75x1.09 max))
pins: 1, 2

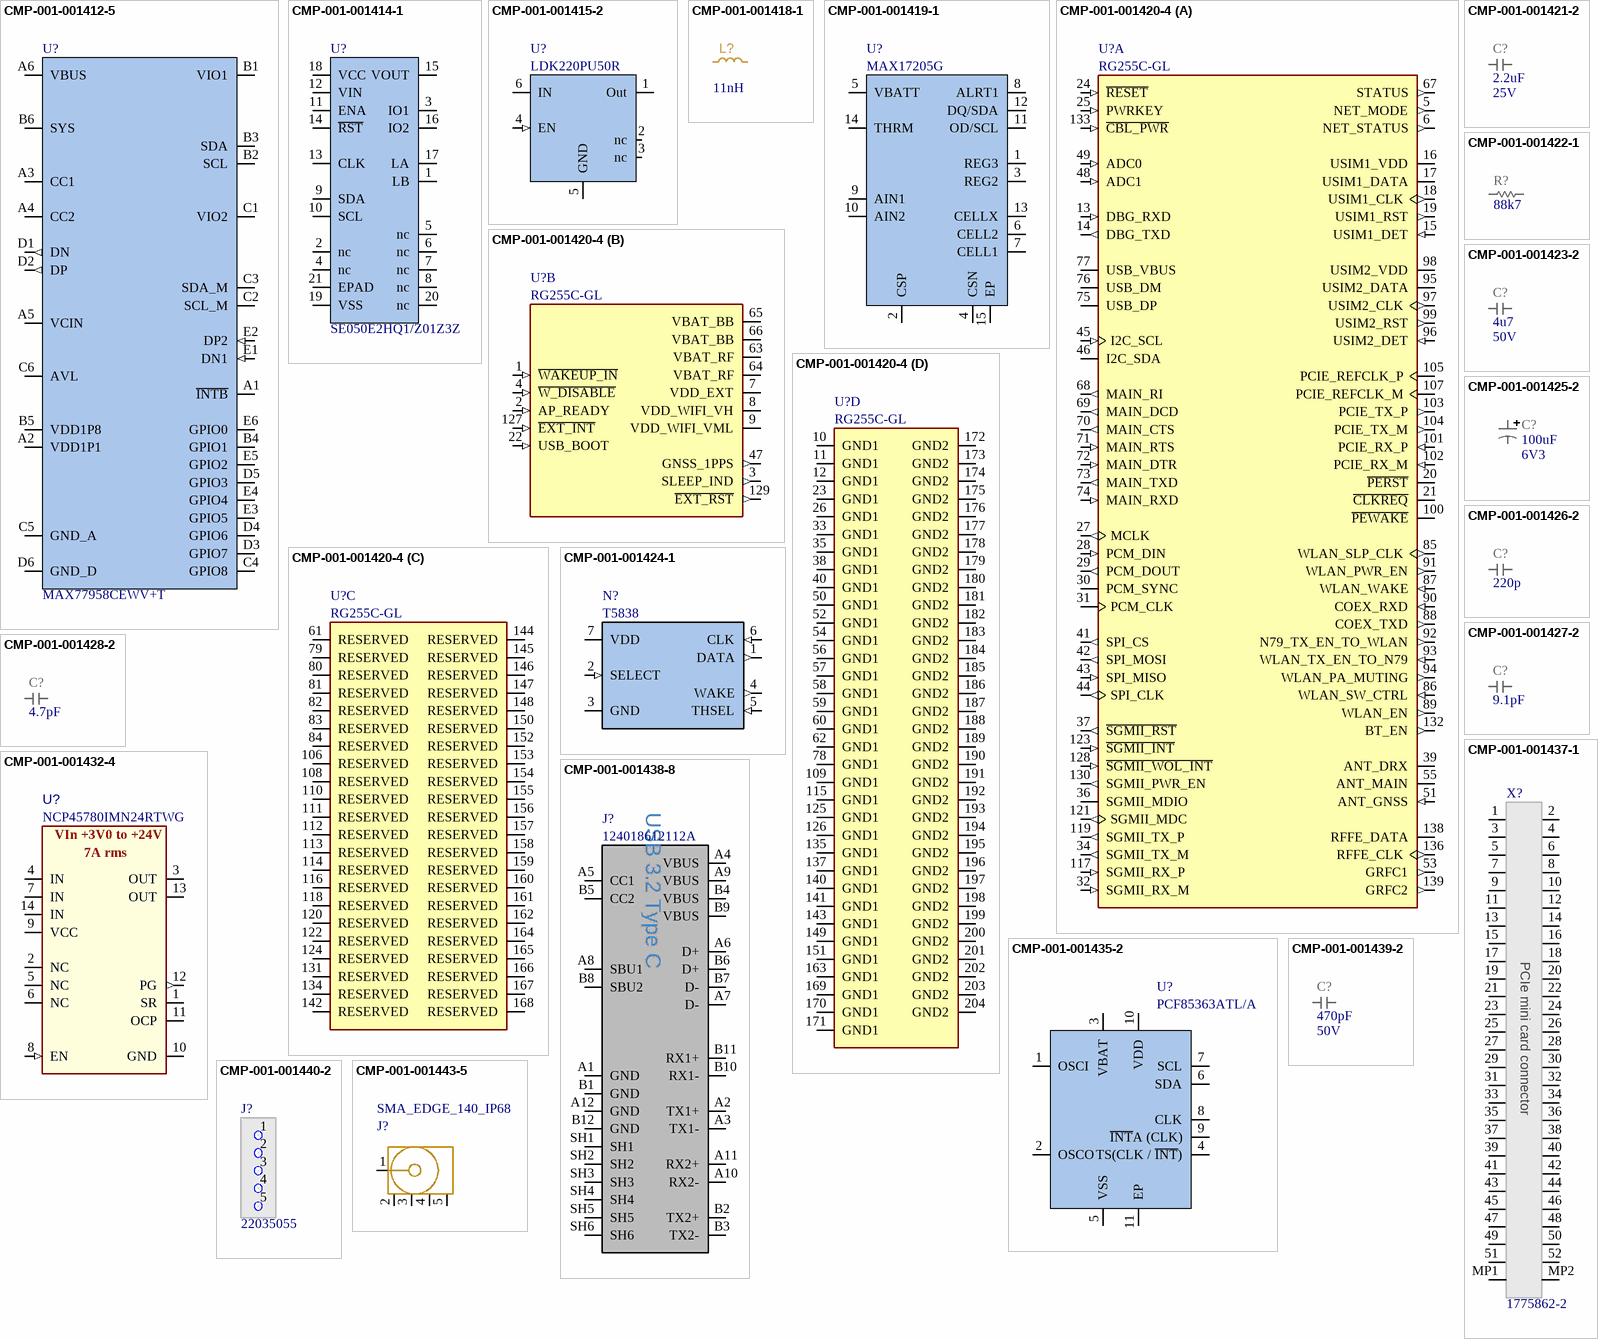
[diagram p8: symbols CMP-001-001412-5 to CMP-001-001443-5]

## CMP-001-001412-5
designator U?, comment Part Number: MAX77958CEWV+T  (hidden comment: MAX77958CEWV+T_ver2)
Standalone USB Type-C and USB Power Delivery Controller; Manufacturer: Analog; Manufacturer: Analog Devices; HasBeenBuilt: CCB30_1; Sort order: 501; System: IC; ComponentLink1Description: 1_Datasheet; ComponentLink1URL: https://www.analog.com/media/en/technical-documentation/data-sheets/MAX77958.pdf?hkey=EF798316E3902B6ED9A73243A3159BB0; ComponentLink2Description: 2_Product page; ComponentLink2URL: https://www.analog.com/en/products/max77958.html; ComponentLink3Description: 3_X-information; ComponentLink3URL: https://pdfserv.maximintegrated.com/en/an/AN1891.pdf; Creation date: 20231023; Operating temperature range: -40 ... +85 °C; Design Item ID: MAX77958CEWV+T; Source: UUDET_KOMPONENTIT.SchLib; ComponentLink4Description: 4_X-information; Manufacturer Part Number: MAX77958CEWV+T; Component Type: Power Supply
footprint MAX77958EWV_T_BGA (6x5 WLP, 0.5mm pitch, 3.1mm x 2.65mm)
pins: A1 ~{INTB}, A2 VDD1P1, A3 CC1, A4 CC2, A5 VCIN, A6 VBUS, B1 VIO1, B2 SCL, B3 SDA, B4 GPIO1, B5 VDD1P8, B6 SYS, C1 VIO2, C2 SCL_M, C3 SDA_M, C4 GPIO8, C5 GND_A, C6 AVL, D1 DN (out), D2 DP (out), D3 GPIO7, D4 GPIO6, D5 GPIO3, D6 GND_D, E1 DN1 (in), E2 DP2 (in), E3 GPIO5, E4 GPIO4, E5 GPIO2, E6 GPIO0

## CMP-001-001414-1
designator U?, comment SE050E2HQ1/Z01Z3Z
TPM; Manufacturer: NXP USA Inc.; Manufacturer: NXP Semiconductors; Sort order: 501; System: IC; ComponentLink1Description: 1_Datasheet; ComponentLink1URL: https://www.nxp.com/part/SE050E2HQ1; ComponentLink2Description: 2_Product page; ComponentLink2URL: https://www.nxp.com/products/security-and-authentication/authentication/edgelock-se050-plug-trust-secure-element-family-enhanced-iot-security-with-high-flexibility:SE050; ComponentLink3Description: 3_X-information; ComponentLink3URL: https://www.nxp.com/docs/en/package-information/SOT1969-1.pdf; Creation date: 20250528; Dimensions WxLxH: 3 x 3 x  0.33mm; Operating temperature range: -40°C .... +105°C; Package: HX2QFN20; Part Number: SE050E2HQ1/Z01Z3Z; ComponentLink4Description: 4_X-information; ComponentLink4URL: https://www.nxp.com/products/SE050; Manufacturer Part Number: SE050E2HQ1/Z01Z3Z; Component Type: Integrated Circuit
footprint HX2QFN20_NXP (HX2QFN20 NXP)
pins: 1 LB, 2 nc, 3 IO1, 4 nc, 5 nc, 6 nc (power), 7 nc, 8 nc, 9 SDA, 10 SCL, 11 ENA, 12 VIN, 13 CLK, 14 ~{RST} (power), 15 VOUT (power), 16 IO2, 17 LA (power), 18 VCC (power), 19 VSS (power), 20 nc (power), 21 EPAD (power)

## CMP-001-001415-2
designator U?, comment Part Number: LDK220PU50R  (hidden comment: LDO_LDK220PU50R_5V)
LDO5V0 200mA; Manufacturer: ST; Manufacturer: STMicroelectronics; System: IC; Sort order: 451; Creation date: 20250528; ComponentLink4Description: 4_X-information; ComponentLink1URL: https://www.st.com/content/ccc/resource/technical/document/datasheet/17/47/52/b8/86/63/45/b6/DM00109416.pdf/files/DM00109416.pdf/jcr:content/translations/en.DM00109416.pdf; Package: DFN6-1.2x1.3; ComponentLink3Description: 3_X-information; ComponentLink2Description: 2_Product page; ComponentLink1Description: 1_Datasheet; ClassName: BIG; Dimensions WxLxH: 1.2x1.3x0.5mm; Manufacturer Part Number: LDK220PU50R; Component Type: Power Supply
footprint DFN6-1.2x1.3
pins: 1 Out (power), 2 nc (power), 3 nc (power), 4 EN (in), 5 GND, 6 IN (power)

## CMP-001-001418-1
designator L?, comment value 11nH  (hidden comment: IND_0201_LQW_11n_RF_MATCHING)
IND_RF_MATCHING; Manufacturer: Murata; Part Number: LQW03AW11NJ00; Manufacturer Part Number: LQW03AW11NJ00D; Remark: RF matching, use part number; Sort order: 206; HasBeenBuilt: TBD; System: RLC; Tolerance: +/- 5%; ECCN: EAR99; Creation date: 20250530; ComponentLink2Description: 2_Product page; RoHS: RoHS3; ComponentLink4Description: 4_X-information; Package: 0201; ClassName: SMALL; ComponentLink1URL: https://www.murata.com/en-eu/products/productdetail?partno=LQW03AW11NJ00%23; Operating temperature range: -55°C ~ 125°C; ComponentLink3Description: 3_X-information; ComponentLink1Description: 1_Datasheet; Component Type: Inductor
footprint IND_0201_UN1Q (Chip Resistor, 0.6x0.3mm, IPC High Density)
pins: 1, 2

## CMP-001-001419-1
designator U?, comment MAX17205G
Fuel Gauge 2~3 cells; Manufacturer: Analog Devices; Manufacturer: Maxim; Manufacturer Part Number: MAX17205G+T; Sort order: 501; System: IC; ClassName: BIG; ComponentLink1Description: 1_Datasheet; ComponentLink1URL: https://www.analog.com/media/en/technical-documentation/data-sheets/max17201-max17215.pdf; ComponentLink2Description: 2_Package outline; ComponentLink2URL: https://www.analog.com/media/en/package-pcb-resources/package/pkg_pdf/tdfn-ep/21-0137.pdf; Creation date: 20250602; Dimensions WxLxH: 3.1×3.1x0.8mm; Operating temperature range: -40 ... +85 °C; Package: 14-TDFN-EP; Part Number: MAX17205G; ComponentLink3URL: https://www.analog.com/media/en/package-pcb-resources/land-pattern/tdfn/90-0063.pdf; ComponentLink4Description: 4_X-information; ComponentLink3Description: 3_Land Pattern; Component Type: Power Supply
footprint MAX17205G
pins: 1 REG3, 2 CSP, 3 REG2, 4 CSN, 5 VBATT, 6 CELL2, 7 CELL1, 8 ALRT1, 9 AIN1, 10 AIN2, 11 OD/SCL, 12 DQ/SDA, 13 CELLX, 14 THRM, 15 EP

## CMP-001-001420-4
designator U?, comment RG255C-GL
5G Module; Manufacturer: Quectel; System: RF; Sort order: 722; Part Number: RG255C-GL; Dimensions WxLxH: 29.2mm x 32.2mm x 2.6mm; Creation Date: 20250603; ComponentLink1Description: 1_Datasheet; ComponentLink4Description: 4_X-information; ComponentLink3Description: 3_X-information; Package: Module; ClassName: BIG; ComponentLink2Description: 2_Product page; Component Type: RF Module
footprint RG255-GL (5G module)
part A pins: 5 NET_MODE (out), 6 NET_STATUS (out), 13 DBG_RXD (in), 14 DBG_TXD (out), 15 USIM1_DET (in), 16 USIM1_VDD (power), 17 USIM1_DATA (io), 18 USIM1_CLK (out), 19 USIM1_RST (out), 20 ~{PERST} (io), 21 ~{CLKREQ} (io), 24 ~{RESET} (in), 25 PWRKEY (in), 27 MCLK (out), 28 PCM_DIN (in), 29 PCM_DOUT (out), 30 PCM_SYNC (io), 31 PCM_CLK (io), 32 SGMII_RX_M (in), 34 SGMII_TX_M (out), 36 SGMII_MDIO (io), 37 ~{SGMII_RST} (out), 39 ANT_DRX (io), 41 SPI_CS (out), 42 SPI_MOSI (out), 43 SPI_MISO (in), 44 SPI_CLK (out), 45 I2C_SCL (in), 46 I2C_SDA (io), 48 ADC1 (in), 49 ADC0 (in), 51 ANT_GNSS (in), 53 GRFC1 (out), 55 ANT_MAIN (io), 67 STATUS (out), 68 MAIN_RI (out), 69 MAIN_DCD (out), 70 MAIN_CTS (out), 71 MAIN_RTS (in), 72 MAIN_DTR (in), 73 MAIN_TXD (out), 74 MAIN_RXD (in), 75 USB_DP (io), 76 USB_DM (io), 77 USB_VBUS (power), 85 WLAN_SLP_CLK (out), 86 WLAN_SW_CTRL (in), 87 WLAN_WAKE (in), 88 COEX_TXD (out), 89 WLAN_EN (out), 90 COEX_RXD (in), 91 WLAN_PWR_EN (out), 92 N79_TX_EN_TO_WLAN (out), 93 WLAN_TX_EN_TO_N79 (in), 94 WLAN_PA_MUTING (out), 95 USIM2_DATA (io), 96 USIM2_DET (in), 97 USIM2_CLK (out), 98 USIM2_VDD (power), 99 USIM2_RST (out), 100 ~{PEWAKE} (io), 101 PCIE_RX_P (in), 102 PCIE_RX_M (in), 103 PCIE_TX_P (out), 104 PCIE_TX_M (out), 105 PCIE_REFCLK_P (io), 107 PCIE_REFCLK_M (io), 117 SGMII_RX_P (in), 119 SGMII_TX_P (out), 121 SGMII_MDC (out), 123 ~{SGMII_INT} (in), 128 ~{SGMII_WOL_INT} (in), 130 SGMII_PWR_EN (out), 132 BT_EN (out), 133 ~{CBL_PWR} (in), 136 RFFE_CLK (out), 138 RFFE_DATA (io), 139 GRFC2 (out)
part B pins: 1 ~{WAKEUP_IN} (in), 2 AP_READY (in), 3 SLEEP_IND (out), 4 ~{W_DISABLE} (in), 7 VDD_EXT (power), 8 VDD_WIFI_VH (power), 9 VDD_WIFI_VML (power), 22 USB_BOOT (in), 47 GNSS_1PPS (out), 63 VBAT_RF (power), 64 VBAT_RF (power), 65 VBAT_BB (power), 66 VBAT_BB (power), 127 ~{EXT_INT} (in), 129 ~{EXT_RST} (out)
part C pins: 61 RESERVED, 79 RESERVED, 80 RESERVED, 81 RESERVED, 82 RESERVED, 83 RESERVED, 84 RESERVED, 106 RESERVED, 108 RESERVED, 110 RESERVED, 111 RESERVED, 112 RESERVED, 113 RESERVED, 114 RESERVED, 116 RESERVED, 118 RESERVED, 120 RESERVED, 122 RESERVED, 124 RESERVED, 131 RESERVED, 134 RESERVED, 142 RESERVED, 144 RESERVED, 145 RESERVED, 146 RESERVED, 147 RESERVED, 148 RESERVED, 150 RESERVED, 152 RESERVED, 153 RESERVED, 154 RESERVED, 155 RESERVED, 156 RESERVED, 157 RESERVED, 158 RESERVED, 159 RESERVED, 160 RESERVED, 161 RESERVED, 162 RESERVED, 164 RESERVED, 165 RESERVED, 166 RESERVED, 167 RESERVED, 168 RESERVED
part D pins: 10 GND1 (power), 11 GND1 (power), 12 GND1 (power), 23 GND1 (power), 26 GND1 (power), 33 GND1 (power), 35 GND1 (power), 38 GND1 (power), 40 GND1 (power), 50 GND1 (power), 52 GND1 (power), 54 GND1 (power), 56 GND1 (power), 57 GND1 (power), 58 GND1 (power), 59 GND1 (power), 60 GND1 (power), 62 GND1 (power), 78 GND1 (power), 109 GND1 (power), 115 GND1 (power), 125 GND1 (power), 126 GND1 (power), 135 GND1 (power), 137 GND1 (power), 140 GND1 (power), 141 GND1 (power), 143 GND1 (power), 149 GND1 (power), 151 GND1 (power), 163 GND1 (power), 169 GND1 (power), 170 GND1 (power), 171 GND1 (power), 172 GND2 (power), 173 GND2 (power), 174 GND2 (power), 175 GND2 (power), 176 GND2 (power), 177 GND2 (power), 178 GND2 (power), 179 GND2 (power), 180 GND2 (power), 181 GND2 (power), 182 GND2 (power), 183 GND2 (power), 184 GND2 (power), 185 GND2 (power), 186 GND2 (power), 187 GND2 (power), 188 GND2 (power), 189 GND2 (power), 190 GND2 (power), 191 GND2 (power), 192 GND2 (power), 193 GND2 (power), 194 GND2 (power), 195 GND2 (power), 196 GND2 (power), 197 GND2 (power), 198 GND2 (power), 199 GND2 (power), 200 GND2 (power), 201 GND2 (power), 202 GND2 (power), 203 GND2 (power), 204 GND2 (power)

## CMP-001-001421-2
designator C?, comment value 2.2uF  Voltage: 25V  (hidden comment: CAP_0603_2u2_25V_X7R)
CAP; Part Number: GRM188Z71E225ME43D; Manufacturer: Murata; Temperature characteristics: X7R; Tolerance: +/-20%; Sort order: 306; HasBeenBuilt: TBD; Alternative component: Allowed; System: RLC; Package: 0603; ComponentLink1Description: 1_Datasheet; ComponentLink2Description: 2_Product page; ComponentLink3Description: 3_X-information; ComponentLink4Description: 4_X-information; Creation date: 20250605; Manufacturer Part Number: GRM188Z71E225ME43D; Component Type: Capacitor
footprint CAP_0603_UN1Q (Chip Capacitor 0603)
pins: 1, 2

## CMP-001-001422-1
designator R?, comment value 88k7  (hidden comment: RES_0201_88k7)
RES; Part Number: RC0201FR-0788K7L; Manufacturer: Yageo; Tolerance: 1%; Power Rating: 1/20W; Sort order: 322; Alternative component: Allowed; System: RLC; Package: 0201; ComponentLink1Description: 1_Datasheet; ComponentLink2Description: 2_Product page; ComponentLink3Description: 3_X-information; ComponentLink4Description: 4_X-information; Creation date: 20250605; ClassName: SMALL; Component Type: Resistor
footprint RES_0201_UN1Q (Chip Resistor, 0.6x0.3mm)
pins: 1, 2

## CMP-001-001423-2
designator C?, comment value 4u7  Voltage: 50V  (hidden comment: CAP_0805_4u7_50V_X7R)
CAP; Manufacturer: TDK; Part Number: CGA4J1X7R1H475K125AC; Sort order: 308; Temperature characteristics: X7R; Tolerance: +/-10%; System: RLC; Alternative component: Allowed; ComponentLink4Description: 4_X-information; ComponentLink3Description: 3_X-information; Package: 0805; ComponentLink2Description: 2_Product page; Creation date: 20250605; ComponentLink1Description: 1_Datasheet; Manufacturer Part Number: CGA4J1X7R1H475K125AC; Component Type: Capacitor
footprint CAP_0805_UN1Q (Chip Capacitor 0805)
pins: 1, 2

## CMP-001-001424-1
designator N?, comment T5838
PDM Digital Output Multi-Mode Microphone; Manufacturer: TDK; Sort order: 445; System: IC; Part Number: T5838; Operating temperature range: −40°C to +85°C; ComponentLink1Description: 1_Datasheet; ClassName: BIG; ComponentLink1URL: https://invensense.tdk.com/wp-content/uploads/2023/06/DS-000383-T5838-Datasheet-v1.1.pdf; ComponentLink2Description: 2_Product page; ComponentLink4Description: 4_X-information; Creation date: 20250605; Package: 5-LGA_CAV; Dimensions WxLxH: 3.5 x 2.65 x 1.11 mm; ComponentLink3Description: 3_X-information; Component Type: Sensor
footprint T5838 (PDM Digital Output Multi-Mode Microphone)
pins: 1 DATA (out), 2 SELECT (in), 3 GND, 4 WAKE (out), 5 THSEL (in), 6 CLK (in), 7 VDD

## CMP-001-001425-2
designator C?, comment value 100uF  Voltage: 6V3  (hidden comment: CAP_RAD_ALUM_100uF_6V3)
CAP Aluminium Electrolytic 6.6 x 6.6 x 5.8mm; Part Number: EEE-FP0J101AL; Manufacturer: Panasonic; System: RLC; Sort order: 308; Tolerance: ±20%; Temperature characteristics: -55C ... +105C; Package: CAN; ComponentLink4Description: 4_X-information; ComponentLink2Description: 2_Product page; Dimensions WxLxH: 6.6mm x 6.6 x 5.8mm; ClassName: BIG; ComponentLink3Description: 3_X-information; ComponentLink1Description: 1_Datasheet; Creation date: 20250606; Component Type: Capacitor
footprint CAP_RAD_ALUM_6.6x6.6x5.8mm (Radial 6.6 x 6.6mm aluminium capacitor)
pins: 1 "Anode", 2 "Cathode"

## CMP-001-001426-2
designator C?, comment value 220p  (hidden comment: CAP_0201_220p)
CAP; Part Number: GRM0335C1E221JA01D; Manufacturer: Murata; Sort order: 302; Tolerance: +/-5%; Temperature characteristics: C0G; System: RLC; Alternative component: Allowed; Voltage: 25V; ClassName: SMALL; ComponentLink4Description: 4_X-information; ComponentLink2Description: 2_Product page; ComponentLink1Description: 1_Datasheet; ComponentLink3Description: 3_X-information; Creation date: 20250606; Package: 0201; Manufacturer Part Number: GRM0335C1E221JA01D; Component Type: Capacitor
footprint CAP_0201_UN1Q (Chip Capacitor 0201)
pins: 1, 2

## CMP-001-001427-2
designator C?, comment value 9.1pF  (hidden comment: CAP_0201_9p1)
CAP; Manufacturer: Murata; Part Number: GRM0335C1E9R1CA01D; Temperature characteristics: C0G; Alternative component: Allowed; Sort order: 302; Tolerance: ±0.25pF; Voltage: 25V; System: RLC; ComponentLink2Description: 2_Product page; Creation date: 20250606; Package: 0201; ComponentLink4Description: 4_X-information; ClassName: SMALL; ComponentLink1Description: 1_Datasheet; ComponentLink3Description: 3_X-information; Manufacturer Part Number: GRM0335C1E9R1CA01D; Component Type: Capacitor
footprint CAP_0201_UN1Q (Chip Capacitor 0201)
pins: 1, 2

## CMP-001-001428-2
designator C?, comment value 4.7pF  (hidden comment: CAP_0201_4p7_25V)
CAP; Manufacturer: Murata; Part Number: GRM0335C1E4R7CA01D; System: RLC; Voltage: 25V; Temperature characteristics: C0G; Sort order: 302; Tolerance: +/-0.25pF; Alternative component: Allowed; ClassName: SMALL; Package: 0201; Creation date: 20250606; ComponentLink1Description: 1_Datasheet; ComponentLink3Description: 3_X-information; ComponentLink2Description: 2_Product page; ComponentLink4Description: 4_X-information; Manufacturer Part Number: GRM0335C1E4R7CA01D; Component Type: Capacitor
footprint CAP_0201_UN1Q (Chip Capacitor 0201)
pins: 1, 2